# EAGLE library part RFM69HCW (library awesome)
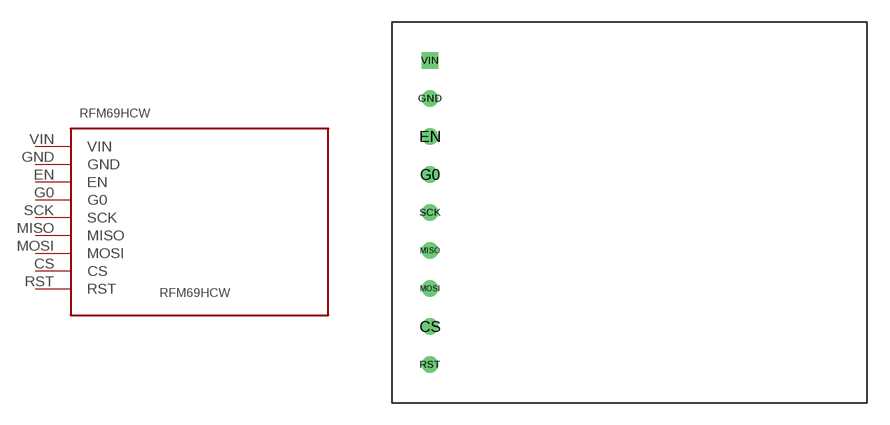
[diagram p1: symbol with the pads of RFM69HCW; footprint RFM69HCW]

Designator prefix RFM69HCW

## RFM69HCW  [RFM69HCW]
CS  CS
EN  EN
G0  G0
GND  GND
MISO  MISO
MOSI  MOSI
RST  RST
SCK  SCK
VIN  VIN

## Footprint RFM69HCW (pad centres in mm)
drill 0.6: CS 0,-17.78; EN 0,-5.08; G0 0,-7.62; GND 0,-2.54; MISO 0,-12.7; MOSI 0,-15.24; RST 0,-20.32; SCK 0,-10.16
drill 0.6 square: VIN 0,0